# Altium schematic symbol library E16_8_5_N87_1.Schlib: 1 symbol
Pins are listed as number, name and electrical type; pins without a type are passive.

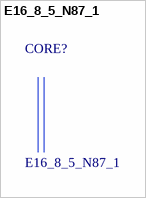
[diagram p0: symbol E16_8_5_N87_1]

## E16_8_5_N87_1
designator CORE?